# EAGLE library part USB.MICRO.MUC-20PFFR-JS8C02 (library LinnesLab-Connectors)
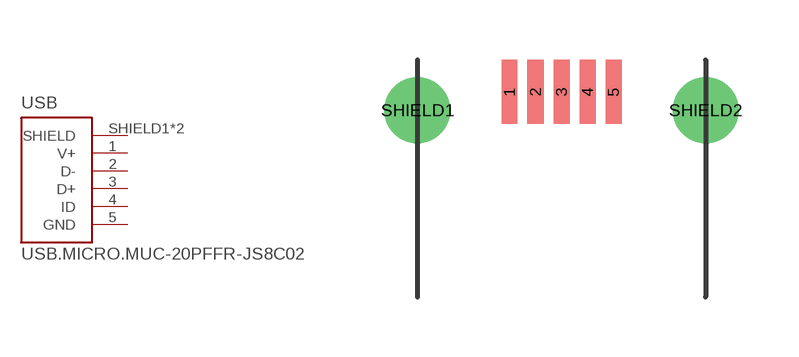
[diagram p13: symbol with the pads of MICRO.USB.MUC-20PFFR-JS8C02; footprint MICRO.USB.MUC-20PFFR-JS8C02]

Designator prefix USB

## USB.MICRO.MUC-20PFFR-JS8C02  [MICRO.USB.MUC-20PFFR-JS8C02]
1  V+
2  D-
3  D+
4  ID
5  GND
SHIELD1  SHIELD
SHIELD2  SHIELD

## Footprint MICRO.USB.MUC-20PFFR-JS8C02 (pad centres in mm)
smd 0.4 x 1.6: 1 -1.3,0; 2 -0.65,0; 3 0,0; 4 0.65,0; 5 1.3,0
drill 1.1: SHIELD1 -3.6,-0.45; SHIELD2 3.6,-0.45